# EAGLE library part OPA4350 (library mullac)
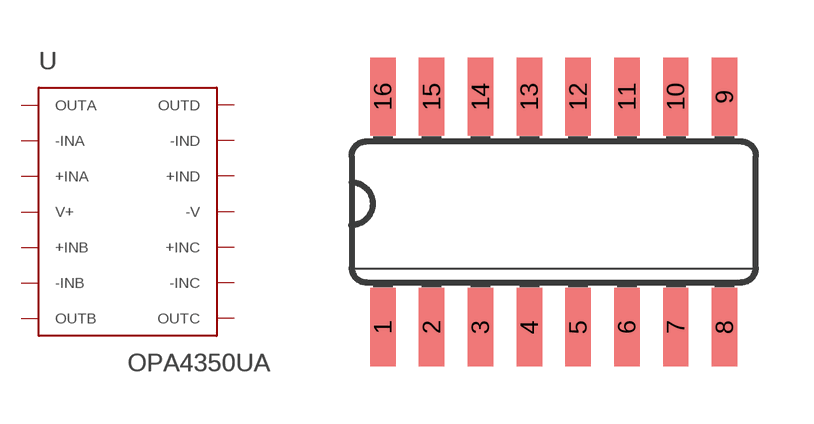
[diagram p20: symbol with the pads of SO16L; footprint SO16L]

Designator prefix -

## OPA4350  [SO16L]
1  OUTA
2  -INA
3  +INA
4  V+
5  +INB
6  -INB
7  OUTB
10  OUTC
11  -INC
12  +INC
13  -V
14  +IND
15  -IND
16  OUTD

## Footprint SO16L (pad centres in mm)
Small Outline Package .300 SIOC Source: http://www.maxim-ic.com/cgi-bin/packages?pkg=16%2FSOIC%2E300&Type=Max
smd 0.66 x 2.032: 1 -4.445,-3.007; 2 -3.175,-3.007; 3 -1.905,-3.007; 4 -0.635,-3.007; 5 0.635,-3.007; 6 1.905,-3.007; 7 3.175,-3.007; 8 4.445,-3.007; 9 4.445,2.997; 10 3.175,2.997; 11 1.905,2.997; 12 0.635,2.997; 13 -0.635,2.997; 14 -1.905,2.997; 15 -3.175,2.997; 16 -4.445,2.997